# EAGLE library part INPUTS_LEFT (library harrison)
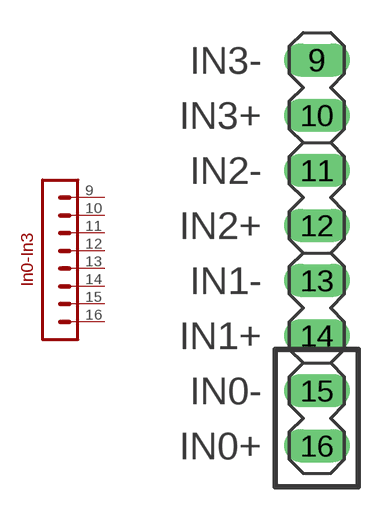
[diagram p20: symbol with the pads of INPUTS_LEFT; footprint INPUTS_LEFT]

Designator prefix -

## INPUTS_LEFT  [INPUTS_LEFT]
9  P$8  pas
10  P$7  pas
11  P$6  pas
12  P$5  pas
13  P$4  pas
14  P$3  pas
15  P$2  pas
16  P$1  pas

## Footprint INPUTS_LEFT (pad centres in mm)
drill 1.016 long: 9 0,-0.635; 10 0,-3.175; 11 0,-5.715; 12 0,-8.255; 13 0,-10.795; 14 0,-13.335; 15 0,-15.875; 16 0,-18.415